# Altium footprint library PcbLib.PcbLib: 8 footprints
Each footprint in its own frame and in the unit in brackets; x right, y up, seen from the top. Pads: shape width x height; smd on the part's side, far side on the other; paste and mask are expansions set on the pad; w line width, h text height; cw(c..) or ccw(c..) is an arc to the next point about the centre after c.
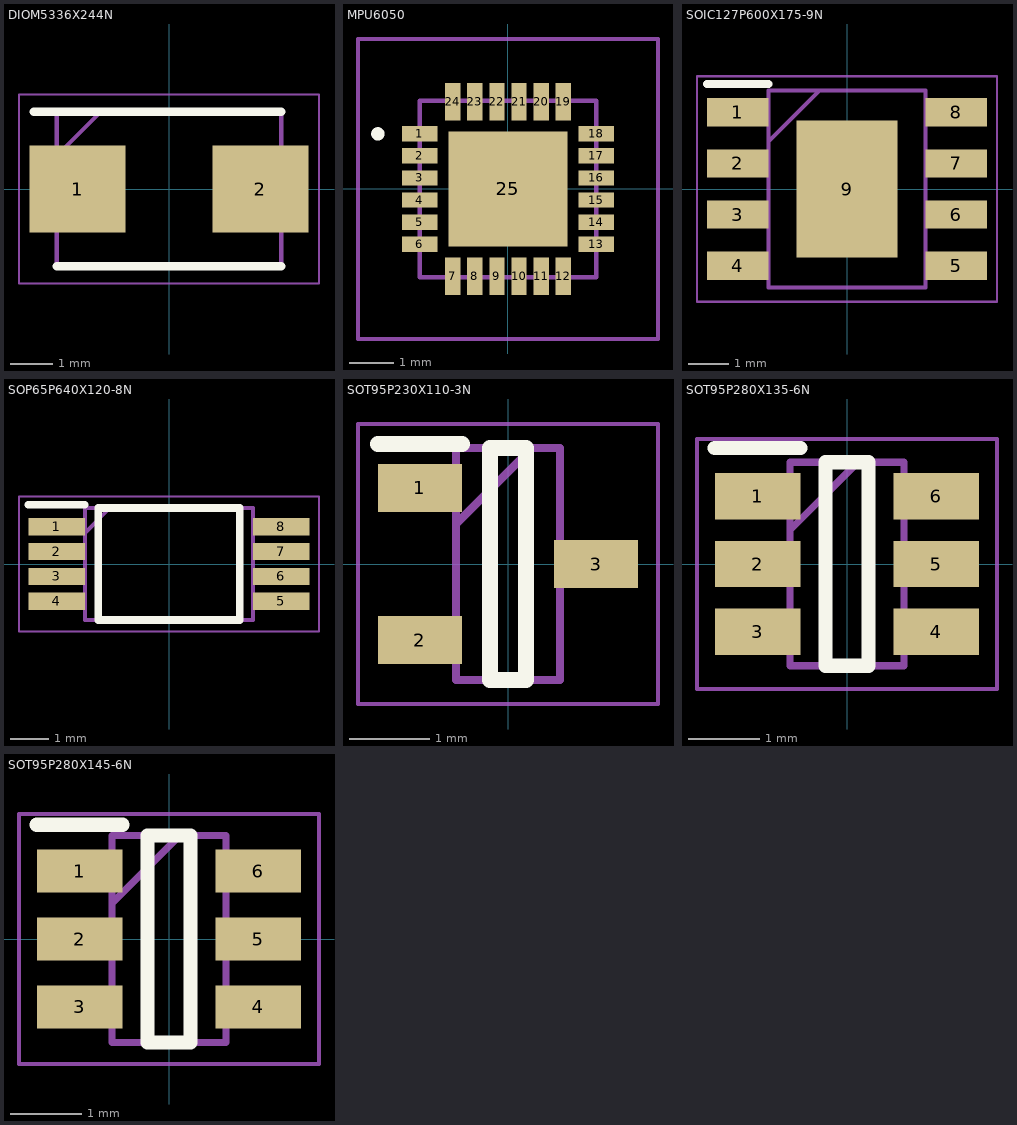
[diagram p0: the footprints below, top view; thin cyan lines are the x and y axes]

## DIOM5336X244N [mm]
pads (2):
  rect 2.25x2.05 smd: 1(-2.15,0) 2(2.15,0)
Top Overlay:
  lines w0.2: -3.175,1.81 2.635,1.81 ; -2.635,-1.81 2.635,-1.81
Mechanical 13:
  lines w0.1: -2.635,0.785 -1.61,1.81 ; -2.635,-1.81 2.635,-1.81 2.635,1.81 -2.635,1.81 -2.635,-1.81
Mechanical 15:
  lines w0.05: -3.525,-2.22 3.525,-2.22 3.525,2.22 -3.525,2.22 -3.525,-2.22
3D body "SS24.stp": height 2.44, standoff 0, extent -2.635,-1.81 2.635,1.81

## MPU6050 [mm]
pads (25):
  rect 0.8x0.35 smd: 1(-2,1.25) 2(-2,0.75) 3(-2,0.25) 4(-2,-0.25) 5(-2,-0.75) 6(-2,-1.25) 13(2,-1.25) 14(2,-0.75) 15(2,-0.25) 16(2,0.25) 17(2,0.75) 18(2,1.25)
  rect 0.35x0.85 smd: 7(-1.25,-1.975) 8(-0.75,-1.975) 9(-0.25,-1.975) 10(0.25,-1.975) 11(0.75,-1.975) 12(1.25,-1.975) 19(1.25,1.975) 20(0.75,1.975) 21(0.25,1.975) 22(-0.25,1.975) 23(-0.75,1.975) 24(-1.25,1.975)
  rect 2.7x2.6 smd: 25(0,0)
Top Overlay:
  lines w0.2: -3,1.25 ccw(c-2.95,1.25) -2.9,1.25 ; -3,1.25 cw(c-2.95,1.25) -2.9,1.25 ; -3,1.25 ccw(c-2.95,1.25) -2.9,1.25
Mechanical 13:
  lines w0.1: -2,-2 2,-2 2,2 -2,2 -2,-2
Mechanical 15:
  lines w0.1: -3.4,-3.4 3.4,-3.4 3.4,3.4 -3.4,3.4 -3.4,-3.4
3D body "MPU-6050.stp": height 0.88, standoff -0.02, extent -2,-2 2,2

## PCBComponent_1 [mm]

## SOIC127P600X175-9N [mm]
pads (9):
  rect 1.525x0.7 smd: 1(-2.712,1.905) 2(-2.712,0.635) 3(-2.712,-0.635) 4(-2.712,-1.905) 5(2.712,-1.905) 6(2.712,-0.635) 7(2.712,0.635) 8(2.712,1.905)
  rect 2.513x3.402 smd: 9(0,0)
Top Overlay:
  lines w0.2: -3.475,2.605 -1.95,2.605
Mechanical 13:
  lines w0.1: -1.95,1.18 -0.68,2.45 ; -1.95,-2.45 -1.95,2.45 1.95,2.45 1.95,-2.45 -1.95,-2.45
Mechanical 15:
  lines w0.05: -3.725,-2.8 -3.725,2.8 3.725,2.8 3.725,-2.8 -3.725,-2.8
3D body "TP4056.stp": height 1.75, standoff 0, extent -3,-2.45 3,2.45

## SOP65P640X120-8N [mm]
pads (8):
  rect 1.475x0.45 smd: 1(-2.938,0.975) 2(-2.938,0.325) 3(-2.938,-0.325) 4(-2.938,-0.975) 5(2.938,-0.975) 6(2.938,-0.325) 7(2.938,0.325) 8(2.938,0.975)
Top Overlay:
  lines w0.2: -3.675,1.55 -2.2,1.55 ; -1.85,-1.465 -1.85,1.465 1.85,1.465 1.85,-1.465 -1.85,-1.465
Mechanical 13:
  lines w0.1: -2.2,0.815 -1.55,1.465 ; -2.2,-1.465 -2.2,1.465 2.2,1.465 2.2,-1.465 -2.2,-1.465
Mechanical 15:
  lines w0.05: -3.925,-1.765 -3.925,1.765 3.925,1.765 3.925,-1.765 -3.925,-1.765
3D body "FS8205A.stp": height 1.2, standoff 0, extent -3.2,-1.465 3.2,1.465

## SOT95P230X110-3N [mm]
pads (3):
  rect 1.05x0.6 smd: 1(-1.1,0.95) 2(-1.1,-0.95) 3(1.1,0)
Top Overlay:
  lines w0.2: -1.625,1.5 -0.575,1.5 ; -0.225,-1.45 -0.225,1.45 0.225,1.45 0.225,-1.45 -0.225,-1.45
Mechanical 13:
  lines w0.1: -0.65,0.5 0.3,1.45 ; -0.65,-1.45 -0.65,1.45 0.65,1.45 0.65,-1.45 -0.65,-1.45
Mechanical 15:
  lines w0.05: -1.875,-1.75 -1.875,1.75 1.875,1.75 1.875,-1.75 -1.875,-1.75
3D body "SI2302DS.stp": height 0.95, standoff 0, extent -1.201,-1.448 1.199,1.452

## SOT95P280X135-6N [mm]
pads (6):
  rect 1.2x0.65 smd: 1(-1.25,0.95) 2(-1.25,0) 3(-1.25,-0.95) 4(1.25,-0.95) 5(1.25,0) 6(1.25,0.95)
Top Overlay:
  lines w0.2: -1.85,1.625 -0.65,1.625 ; -0.3,-1.425 -0.3,1.425 0.3,1.425 0.3,-1.425 -0.3,-1.425
Mechanical 13:
  lines w0.1: -0.8,0.475 0.15,1.425 ; -0.8,-1.425 -0.8,1.425 0.8,1.425 0.8,-1.425 -0.8,-1.425
Mechanical 15:
  lines w0.05: -2.1,-1.75 -2.1,1.75 2.1,1.75 2.1,-1.75 -2.1,-1.75
3D body "DW01A-G.stp": height 1.35, standoff 0, extent -1.4,-1.425 1.4,1.425

## SOT95P280X145-6N [mm]
pads (6):
  rect 1.2x0.6 smd: 1(-1.25,0.95) 2(-1.25,0) 3(-1.25,-0.95) 4(1.25,-0.95) 5(1.25,0) 6(1.25,0.95)
Top Overlay:
  lines w0.2: -1.85,1.6 -0.65,1.6 ; -0.3,-1.45 -0.3,1.45 0.3,1.45 0.3,-1.45 -0.3,-1.45
Mechanical 13:
  lines w0.1: -0.8,0.5 0.15,1.45 ; -0.8,-1.45 -0.8,1.45 0.8,1.45 0.8,-1.45 -0.8,-1.45
Mechanical 15:
  lines w0.05: -2.1,-1.75 -2.1,1.75 2.1,1.75 2.1,-1.75 -2.1,-1.75
3D body "MT3608.stp": height 1.45, standoff 0, extent -1.4,-1.45 1.4,1.45